# Altium schematic symbol library 7SegDisplay.SchLib: 1 symbol
Pins are listed as number, name and electrical type; pins without a type are passive.

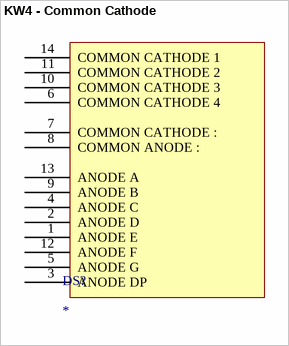
[diagram p0: symbol KW4 - Common Cathode]

## KW4 - Common Cathode
designator DS?
Lucky Light 4-digit 7 segment clock display
footprint KW4-56 (Lucky Light 4-Digit 7 segment display 0.56" digit height)
pins: 1 ANODE E, 2 ANODE D, 3 ANODE DP, 4 ANODE C, 5 ANODE G, 6 COMMON CATHODE 4, 7 COMMON CATHODE :, 8 COMMON ANODE :, 9 ANODE B, 10 COMMON CATHODE 3, 11 COMMON CATHODE 2, 12 ANODE F, 13 ANODE A, 14 COMMON CATHODE 1